# EAGLE library part AD8317 (library balto)
1 MHz to 10 GHz, 55 dB Log Detector/Controller
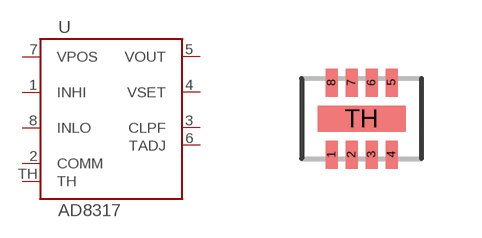
[diagram p46: symbol with the pads of LFCSP8; footprint LFCSP8]

Designator prefix U

## AD8317  [LFCSP8]
1  INHI
2  COMM
3  CLPF
4  VSET
5  VOUT
6  TADJ
7  VPOS
8  INLO
TH  TH

## Footprint LFCSP8 (pad centres in mm)
8-Lead Lead Frame Chip Scale Package [LFCSP_VD] 2 x 3 mm Body, Very Thin, Dual Lead
smd 0.3 x 0.7: 1 -0.75,-0.9; 2 -0.25,-0.9; 3 0.25,-0.9; 4 0.75,-0.9; 5 0.75,0.9; 6 0.25,0.9; 7 -0.25,0.9; 8 -0.75,0.9
smd 2.2 x 0.65: TH 0,0